# Altium footprint library Bibliotecahpta.PcbLib: 22 footprints (part 2 of 2)
Each footprint in its own frame and in the unit in brackets; x right, y up, seen from the top. Pads: shape width x height; smd on the part's side, far side on the other; paste and mask are expansions set on the pad; w line width, h text height; cw(c..) or ccw(c..) is an arc to the next point about the centre after c.
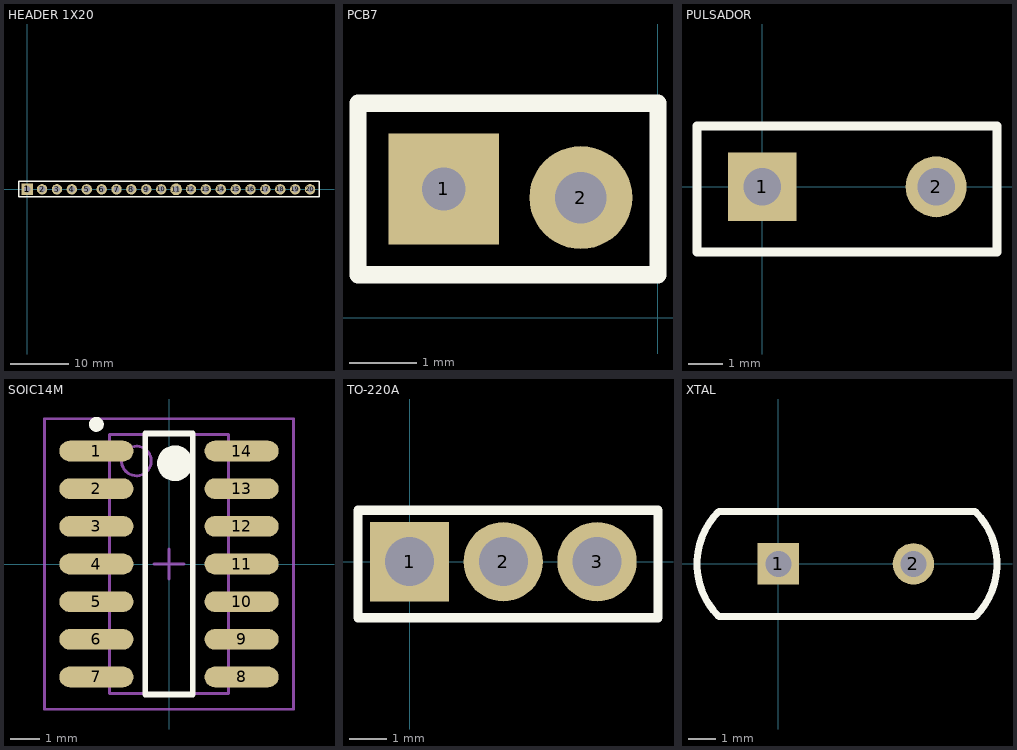
[diagram p1: the footprints below, top view; thin cyan lines are the x and y axes]

## HEADER 1X20 [mil]
pads (20):
  rect 78.74x78.74 hole 43.31: 1(0,0)
  round 70 hole 43.31: 2(100,0) 3(200,0) 4(300,0) 5(400,0) 6(500,0) 7(600,0) 8(700,0) 9(800,0) 10(900,0) 12(1100,0) 13(1200,0) 14(1300,0) 15(1400,0) 16(1500,0) 17(1600,0) 18(1700,0) 19(1800,0) 20(1900,0)
  round 78.74 hole 43.31: 11(1000,0)
Top Overlay:
  lines w10: -55,-50 1960,-50 1960,55 -55,55 -55,-50

## PCB7 [mil]
pads (2):
  rect 64.57x64.57 hole 25.2 square: 1(-125,75)
  round 60 hole 30: 2(-45,70)
Top Overlay:
  lines w10: -175,25 0,25 0,125 -175,125 -175,25

## PULSADOR [mm]
pads (2):
  rect 2x2 hole 1.1: 1(0,0)
  round 1.778 hole 1.1: 2(5.08,0)
Top Overlay:
  lines w0.254: -1.905,-1.905 -1.905,1.778 6.858,1.778 6.858,-1.905 -1.905,-1.905

## SOIC14M [mm] "SOIC, 14-Leads, Body 8.7x3.9mm, Pitch 1.27mm, IPC Low Density"
height 1.75
pads (14):
  oval 2.5x0.7 smd: 1(-2.45,3.81) 2(-2.45,2.54) 3(-2.45,1.27) 4(-2.45,0) 5(-2.45,-1.27) 6(-2.45,-2.54) 7(-2.45,-3.81) 8(2.45,-3.81) 9(2.45,-2.54) 10(2.45,-1.27) 11(2.45,0) 12(2.45,1.27) 13(2.45,2.54) 14(2.45,3.81)
Top Overlay:
  circle w0.25: c-2.45,4.71 r0.125
  circle w0.6: c0.2,3.4 r0.3
  lines w0.2: -0.8,-4.4 -0.8,4.4 0.8,4.4 0.8,-4.4 -0.8,-4.4
Mechanical 13:
  circle w0.1: c-1.1,3.475 r0.5
  lines w0.1: -2,-4.375 -2,4.375 2,4.375 2,-4.375 -2,-4.375
Mechanical 15:
  lines w0.1: -0.5,0 0.5,0 ; 0,-0.5 0,0.5 ; -4.2,-4.9 -4.2,4.9 4.2,4.9 4.2,-4.9 -4.2,-4.9
3D body: height 1.75, standoff 0, extent -2,-4.375 2,4.375

## TO-220A [mm] "Regulador de voltaje positivo, de 5 voltios y 1A de salida. Empaque TO-220."
pads (3):
  rect 2.15x2.15 hole 1.33: 1(0,0)
  round 2.15 hole 1.33: 2(2.54,0) 3(5.08,0)
Top Overlay:
  lines w0.254: -1.397,-1.524 6.731,-1.524 6.731,1.397 -1.397,1.397 -1.397,-1.524

## XTAL [mm]
pads (2):
  rect 1.5x1.5 hole 0.93: 1(0,0)
  round 1.5 hole 0.93: 2(4.88,0)
Top Overlay:
  lines w0.254: -2.159,-1.905 7.112,-1.905 ccw(c5.212,-0.005) 7.112,1.895 -2.159,1.895 ; -2.159,-1.9 cw(c-0.259,0) -2.159,1.9